# Altium footprint library CO2 Sensor.PcbLib: 1 footprints
Each footprint in its own frame and in the unit in brackets; x right, y up, seen from the top. Pads: shape width x height; smd on the part's side, far side on the other; paste and mask are expansions set on the pad; w line width, h text height; cw(c..) or ccw(c..) is an arc to the next point about the centre after c.
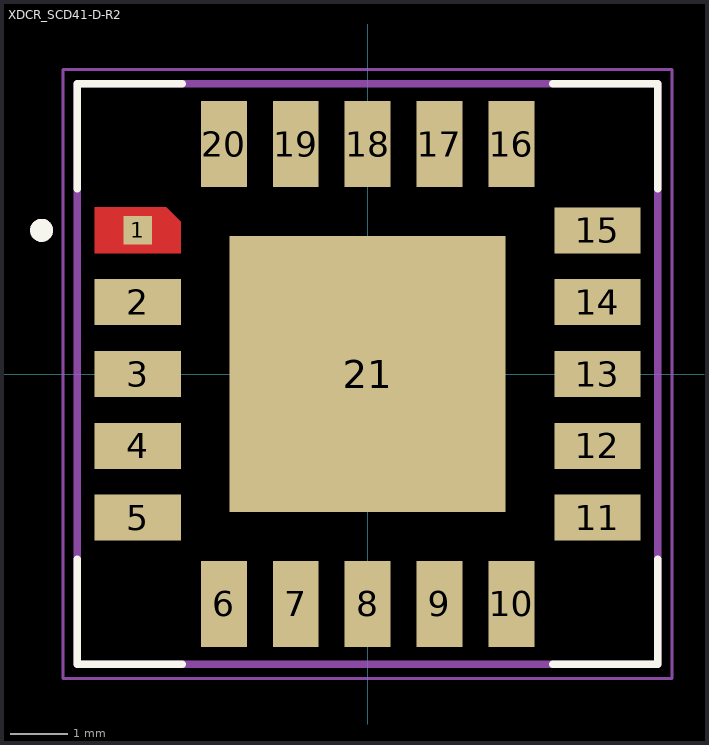
[diagram p0: the footprint, top view; thin cyan lines are the x and y axes]

## XDCR_SCD41-D-R2 [mm]
height 6.8
pads (21):
  rect 0.5x0.5 smd paste-1 mask+0: 1(-4,2.5)
  rect 1.5x0.8 smd paste-0.125 mask+0.1: 2(-4,1.25) 3(-4,0) 4(-4,-1.25) 5(-4,-2.5) 11(4,-2.5) 12(4,-1.25) 13(4,0) 14(4,1.25) 15(4,2.5)
  rect 0.8x1.5 smd paste-0.125 mask+0.1: 6(-2.5,-4) 7(-1.25,-4) 8(0,-4) 9(1.25,-4) 10(2.5,-4) 16(2.5,4) 17(1.25,4) 18(0,4) 19(-1.25,4) 20(-2.5,4)
  rect 4.8x4.8 smd paste-3 mask+0.1: 21(0,0)
Top Layer:
  region: -3.25,2.65 -3.25,2.1 -4.75,2.1 -4.75,2.9 -3.5,2.9
Top Overlay:
  circle w0.2: c-5.673,2.5 r0.1
  lines w0.127: -5.05,-3.22 -5.05,-5.05 -3.22,-5.05 ; -5.05,3.22 -5.05,5.05 -3.22,5.05 ; 3.22,-5.05 5.05,-5.05 5.05,-3.22 ; 3.22,5.05 5.05,5.05 5.05,3.22
Top Paste:
  region: -0.35,0.35 -2.15,0.35 -2.15,2.15 -0.35,2.15
  region: 2.15,0.35 0.35,0.35 0.35,2.15 2.15,2.15
  region: 2.15,-2.15 0.35,-2.15 0.35,-0.35 2.15,-0.35
  region: -0.35,-2.15 -2.15,-2.15 -2.15,-0.35 -0.35,-0.35
  region: -3.375,2.595 -3.375,2.225 -4.625,2.225 -4.625,2.775 -3.555,2.775
Top Solder:
  region: -3.15,2.72 -3.15,2 -4.85,2 -4.85,3 -3.43,3
Mechanical 13:
  circle w0.2: c-5.673,2.5 r0.1
  lines w0.127: -5.05,-5.05 5.05,-5.05 5.05,5.05 -5.05,5.05 -5.05,-5.05
Mechanical 15:
  lines w0.05: -5.3,-5.3 -5.3,5.3 5.3,5.3 5.3,-5.3 -5.3,-5.3
3D body "step_temp.STEP": height 5.05, standoff -5.05, extent -5.05,-5.48 5.05,0.829